# Altium footprint library GY-NEO6MV2.PcbLib: 1 footprints
Each footprint in its own frame and in the unit in brackets; x right, y up, seen from the top. Pads: shape width x height; smd on the part's side, far side on the other; paste and mask are expansions set on the pad; w line width, h text height; cw(c..) or ccw(c..) is an arc to the next point about the centre after c.
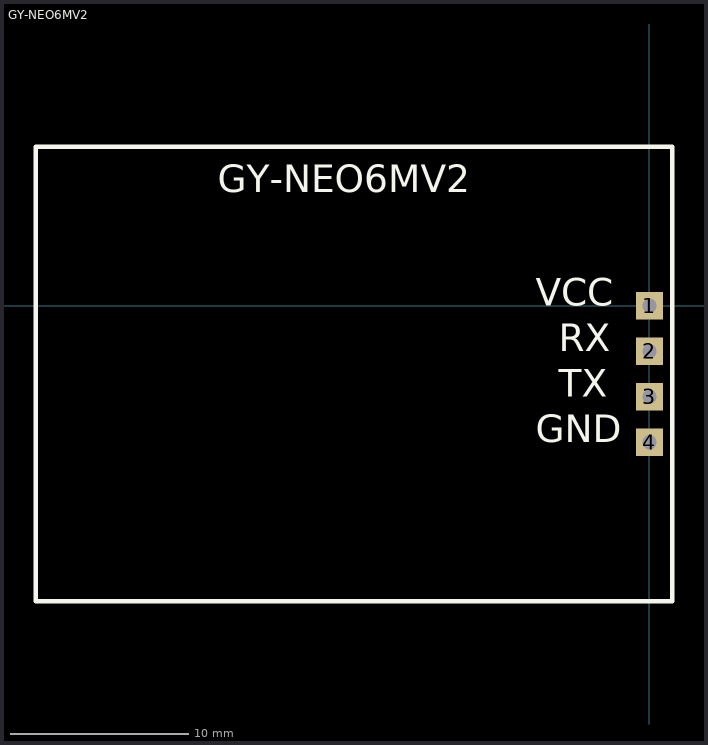
[diagram p0: the footprint, top view; thin cyan lines are the x and y axes]

## GY-NEO6MV2 [mil] "Modulo GPS usado no projeto ASR1000."
pads (4):
  rect 60x60 hole 31.5: 1(0,0) 2(0,-100) 3(0,-200) 4(0,-300)
Top Overlay:
  lines w10: -1350,-650 -1350,350 50,350 50,-150 50,-650 -1350,-650
  text "GY-NEO6MV2" at -950,250 h60
  text "VCC" at -250,0 h60
  text "RX" at -200,-100 h60
  text "TX" at -200,-200 h60
  text "GND" at -250,-300 h60